# Altium integrated library PDQE20-Q24-S5-D.IntLib: 1 symbol
Pins are listed as number, name and electrical type; pins without a type are passive.

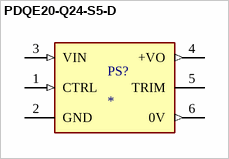
[diagram p0: symbol PDQE20-Q24-S5-D]

## PDQE20-Q24-S5-D
designator PS?
20 W, 4:1 Input Range, Single/Dual Regulated Output, DIP, 1500 Vdc Isolation, DC-Dc Converter; MP: PDQE20-Q24-S5-D; MF: {'manufacturer': u'CUI'}; Package: None; Price: None; Availability: Unavailable; Value: *
footprint CONV_PDQE20-Q24-S5-D
pins: 1 CTRL (in), 2 GND (power), 3 VIN (in), 4 +VO (out), 5 TRIM, 6 0V (out)